# Altium integrated library DA1_prj.IntLib: 45 symbols
Pins are listed as number, name and electrical type; pins without a type are passive.

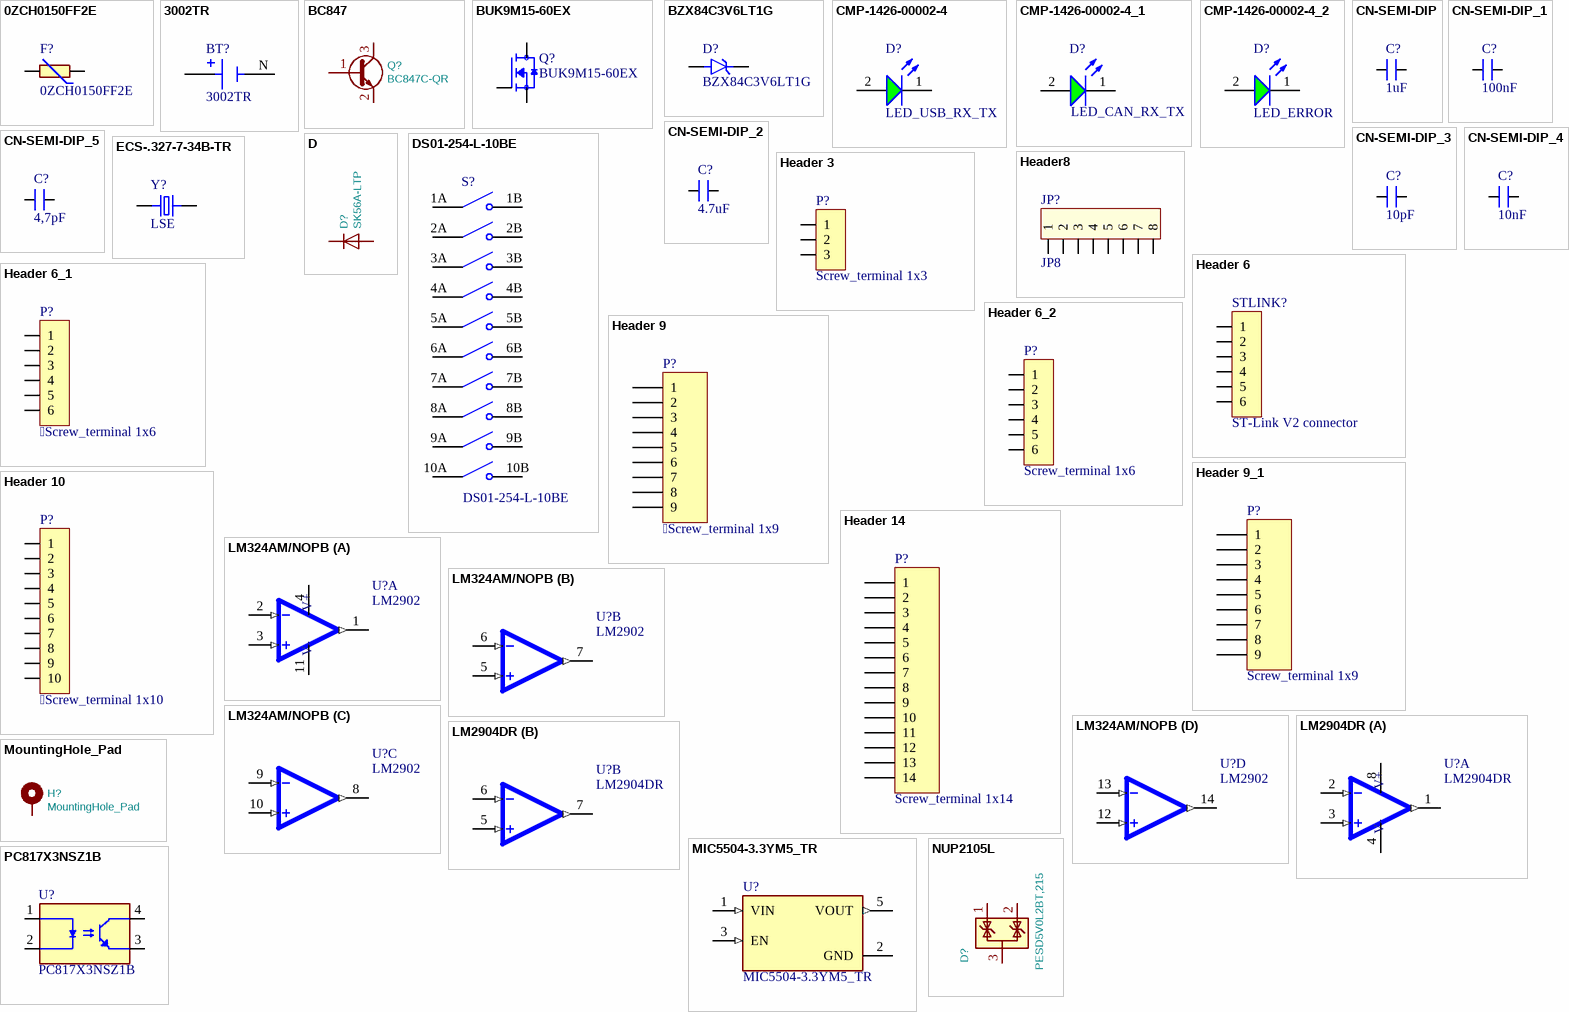
[diagram p0: symbols 0ZCH0150FF2E to PC817X3NSZ1B]

## 0ZCH0150FF2E
designator F?
1210 SMT PPTC | 1.50 Ih | 6V; MF: Bel Fuse; SnapEDA_Link: https://www.snapeda.com/parts/0ZCH0150FF2E/Bel+Circuit+Protection/view-part/?ref=snap; Package: Package; Value: *; MP: 0ZCH0150FF2E; Check_prices: https://www.snapeda.com/parts/0ZCH0150FF2E/Bel+Circuit+Protection/view-part/?ref=eda
footprint FUSC3225X90N
pins: 1, 2

## 3002TR
designator BT?
Battery Retainer; Coin Cell; 20 MM;Surface Mount; TAPE & REEL | Keystone Electronics 3002TR; SnapEDA_Link: https://www.snapeda.com/parts/3002TR/Keystone/view-part/?ref=snap; Package: None; Value: *; MF: Keystone Electronics; MP: 3002TR; Check_prices: https://www.snapeda.com/parts/3002TR/Keystone/view-part/?ref=eda
footprint BAT_3002TR
pins: N NEG, P1 POS, P2 POS

## BC847
designator Q?, comment BC847C-QR
LCSC: C2145; Value: BC847C-QR; Footprint: Package_TO_SOT_SMD:SOT-23
footprint SOT-23
footprint SOT95P240X111-3N
pins: 1 B, 2 E, 3 C

## BUK9M15-60EX
designator Q?
Bá»™ chuyá»ƒn Ä‘á»•i N-Channel 60 V 47A (Tc) 75W (Tc) gáº¯n bá» máº·t LFPAK33; MF: Nexperia USA; SnapEDA_Link: https://www.snapeda.com/parts/BUK9M15-60EX/Nexperia/view-part/?ref=snap; Package: LFPAK33-8 Nexperia USA Inc.; Value: *; MP: BUK9M15-60EX; Check_prices: https://www.snapeda.com/parts/BUK9M15-60EX/Nexperia/view-part/?ref=eda
footprint TRANS_BUK9M15-60EX
pins: 1 S, 2 S, 3 S, 4 G, 5 D

## BZX84C3V6LT1G
designator D?
Package: None; Price: None; Value: *; MP: BZX84C3V6LT1G; Availability: Unavailable
footprint SOT95P240X111-3N
pins: 1 A, 3 K

## CMP-1426-00002-4
designator D?, comment LED_USB_RX_TX
430mcd Colorless transparence 520nm Emerald 140° LED0603 Light Emitting Diodes (LED) ROHS; Peak Wavelength: 515nm; Forward Current: 100mA; Reverse Voltage: 5V; Output Current: 10µA; Power Dissipation: 105mW; Lens Style: Clear, Rectangular; Dominant Wavelength: 525nm; Color: Green; Test Current: 20mA; Max Junction Temperature (Tj): 95°C; Forward Voltage: 3.2V; Width: 800µm; Max Operating Temperature: 85°C; Case Code (Metric): 1608; Luminous Intensity: 430mcd; Lead Free: Lead Free; Case/Package: 0603; Case Code (Imperial): 0603; Mount: Surface Mount; Max Reverse Voltage (DC): 5V; Packaging: Tape and Reel; RoHS: Compliant; Viewing Angle: 140°; REACH SVHC: Unknown; Min Operating Temperature: -40°C; Height: 700µm; Wavelength: 525nm; Length: 1.6mm
footprint WL-SMCW_0603_150060xx75000
pins: 1 K, 2 A

## CMP-1426-00002-4_1
designator D?, comment LED_CAN_RX_TX
430mcd Colorless transparence 520nm Emerald 140° LED0603 Light Emitting Diodes (LED) ROHS; Peak Wavelength: 515nm; Forward Current: 100mA; Reverse Voltage: 5V; Output Current: 10µA; Power Dissipation: 105mW; Lens Style: Clear, Rectangular; Dominant Wavelength: 525nm; Color: Green; Test Current: 20mA; Max Junction Temperature (Tj): 95°C; Forward Voltage: 3.2V; Width: 800µm; Max Operating Temperature: 85°C; Case Code (Metric): 1608; Luminous Intensity: 430mcd; Lead Free: Lead Free; Case/Package: 0603; Case Code (Imperial): 0603; Mount: Surface Mount; Max Reverse Voltage (DC): 5V; Packaging: Tape and Reel; RoHS: Compliant; Viewing Angle: 140°; REACH SVHC: Unknown; Min Operating Temperature: -40°C; Height: 700µm; Wavelength: 525nm; Length: 1.6mm
footprint WL-SMCW_0603_150060xx75000
pins: 1 K, 2 A

## CMP-1426-00002-4_2
designator D?, comment LED_ERROR
430mcd Colorless transparence 520nm Emerald 140° LED0603 Light Emitting Diodes (LED) ROHS; Peak Wavelength: 515nm; Forward Current: 100mA; Reverse Voltage: 5V; Output Current: 10µA; Power Dissipation: 105mW; Lens Style: Clear, Rectangular; Dominant Wavelength: 525nm; Color: Green; Test Current: 20mA; Max Junction Temperature (Tj): 95°C; Forward Voltage: 3.2V; Width: 800µm; Max Operating Temperature: 85°C; Case Code (Metric): 1608; Luminous Intensity: 430mcd; Lead Free: Lead Free; Case/Package: 0603; Case Code (Imperial): 0603; Mount: Surface Mount; Max Reverse Voltage (DC): 5V; Packaging: Tape and Reel; RoHS: Compliant; Viewing Angle: 140°; REACH SVHC: Unknown; Min Operating Temperature: -40°C; Height: 700µm; Wavelength: 525nm; Length: 1.6mm
footprint WL-SMCW_0603_150060xx75000
pins: 1 K, 2 A

## CN-SEMI-DIP
designator C?, comment 1uF
Capacitor (Semiconductor SIM Model); Value: 104; LatestRevisionDate: 17-Jul-2002; LatestRevisionNote: Re-released for DXP Platform.; PackageReference: C1206; Publisher: Altium Limited
footprint C-SE-7,5x10x9x5x4 (Film Capacitors, 2-Leads, Body 7,5x10x9x5)
footprint C-SE-7,5x11x13x9x4 (Film Capacitors, 2-Leads, Body 7,5x11x13x9)
footprint C-SE-10x12,5x20x10x4 (Film Capacitors, 2-Leads, Body 10x12,5x20x10)
footprint C-SE-10x13x12x6x4 (Film Capacitors, 2-Leads, Body 10x13x12x6)
footprint C-SE-12,5x15x16x10x4 (Film Capacitors, 2-Leads, Body 12,5x15x16x10)
footprint C-SE-15x18x13,5x6,5x4 (Film Capacitors, 2-Leads, Body 15x18x13,5x6,5)
footprint C-SE-15x18x17,5x10x4 (Film Capacitors, 2-Leads, Body 15x18x17,5x10)
footprint C-SE-22,5x26x20x11x4 (Film Capacitors, 2-Leads, Body 22,5x26x20x11)
footprint C-SE-27,5x31x29x15,5x4 (Film Capacitors, 2-Leads, Body 27,5x31x29x15,5)
footprint C-SE-37,5x41,5x35,5x22,5x4 (Film Capacitors, 2-Leads, Body 37,5x41,5x35,5x22,5)
footprint FP-C0603C-CF-IPC_A
pins: 1, 2

## CN-SEMI-DIP_1
designator C?, comment 100nF
Capacitor (Semiconductor SIM Model); Value: 104; LatestRevisionDate: 17-Jul-2002; LatestRevisionNote: Re-released for DXP Platform.; PackageReference: C1206; Publisher: Altium Limited
footprint C-SE-7,5x10x9x5x4 (Film Capacitors, 2-Leads, Body 7,5x10x9x5)
footprint C-SE-7,5x11x13x9x4 (Film Capacitors, 2-Leads, Body 7,5x11x13x9)
footprint C-SE-10x12,5x20x10x4 (Film Capacitors, 2-Leads, Body 10x12,5x20x10)
footprint C-SE-10x13x12x6x4 (Film Capacitors, 2-Leads, Body 10x13x12x6)
footprint C-SE-12,5x15x16x10x4 (Film Capacitors, 2-Leads, Body 12,5x15x16x10)
footprint C-SE-15x18x13,5x6,5x4 (Film Capacitors, 2-Leads, Body 15x18x13,5x6,5)
footprint C-SE-15x18x17,5x10x4 (Film Capacitors, 2-Leads, Body 15x18x17,5x10)
footprint C-SE-22,5x26x20x11x4 (Film Capacitors, 2-Leads, Body 22,5x26x20x11)
footprint C-SE-27,5x31x29x15,5x4 (Film Capacitors, 2-Leads, Body 27,5x31x29x15,5)
footprint C-SE-37,5x41,5x35,5x22,5x4 (Film Capacitors, 2-Leads, Body 37,5x41,5x35,5x22,5)
footprint FP-C0603C-CF-IPC_A
pins: 1, 2

## CN-SEMI-DIP_2
designator C?, comment 4.7uF
Capacitor (Semiconductor SIM Model); Value: 104; LatestRevisionDate: 17-Jul-2002; LatestRevisionNote: Re-released for DXP Platform.; PackageReference: C1206; Publisher: Altium Limited
footprint C-SE-7,5x10x9x5x4 (Film Capacitors, 2-Leads, Body 7,5x10x9x5)
footprint C-SE-7,5x11x13x9x4 (Film Capacitors, 2-Leads, Body 7,5x11x13x9)
footprint C-SE-10x12,5x20x10x4 (Film Capacitors, 2-Leads, Body 10x12,5x20x10)
footprint C-SE-10x13x12x6x4 (Film Capacitors, 2-Leads, Body 10x13x12x6)
footprint C-SE-12,5x15x16x10x4 (Film Capacitors, 2-Leads, Body 12,5x15x16x10)
footprint C-SE-15x18x13,5x6,5x4 (Film Capacitors, 2-Leads, Body 15x18x13,5x6,5)
footprint C-SE-15x18x17,5x10x4 (Film Capacitors, 2-Leads, Body 15x18x17,5x10)
footprint C-SE-22,5x26x20x11x4 (Film Capacitors, 2-Leads, Body 22,5x26x20x11)
footprint C-SE-27,5x31x29x15,5x4 (Film Capacitors, 2-Leads, Body 27,5x31x29x15,5)
footprint C-SE-37,5x41,5x35,5x22,5x4 (Film Capacitors, 2-Leads, Body 37,5x41,5x35,5x22,5)
footprint FP-C0603C-CF-IPC_A
pins: 1, 2

## CN-SEMI-DIP_3
designator C?, comment 10pF
Capacitor (Semiconductor SIM Model); Value: 104; LatestRevisionDate: 17-Jul-2002; LatestRevisionNote: Re-released for DXP Platform.; PackageReference: C1206; Publisher: Altium Limited
footprint C-SE-7,5x10x9x5x4 (Film Capacitors, 2-Leads, Body 7,5x10x9x5)
footprint C-SE-7,5x11x13x9x4 (Film Capacitors, 2-Leads, Body 7,5x11x13x9)
footprint C-SE-10x12,5x20x10x4 (Film Capacitors, 2-Leads, Body 10x12,5x20x10)
footprint C-SE-10x13x12x6x4 (Film Capacitors, 2-Leads, Body 10x13x12x6)
footprint C-SE-12,5x15x16x10x4 (Film Capacitors, 2-Leads, Body 12,5x15x16x10)
footprint C-SE-15x18x13,5x6,5x4 (Film Capacitors, 2-Leads, Body 15x18x13,5x6,5)
footprint C-SE-15x18x17,5x10x4 (Film Capacitors, 2-Leads, Body 15x18x17,5x10)
footprint C-SE-22,5x26x20x11x4 (Film Capacitors, 2-Leads, Body 22,5x26x20x11)
footprint C-SE-27,5x31x29x15,5x4 (Film Capacitors, 2-Leads, Body 27,5x31x29x15,5)
footprint C-SE-37,5x41,5x35,5x22,5x4 (Film Capacitors, 2-Leads, Body 37,5x41,5x35,5x22,5)
footprint FP-C0603C-CF-IPC_A
pins: 1, 2

## CN-SEMI-DIP_4
designator C?, comment 10nF
Capacitor (Semiconductor SIM Model); Value: 104; LatestRevisionDate: 17-Jul-2002; LatestRevisionNote: Re-released for DXP Platform.; PackageReference: C1206; Publisher: Altium Limited
footprint C-SE-7,5x10x9x5x4 (Film Capacitors, 2-Leads, Body 7,5x10x9x5)
footprint C-SE-7,5x11x13x9x4 (Film Capacitors, 2-Leads, Body 7,5x11x13x9)
footprint C-SE-10x12,5x20x10x4 (Film Capacitors, 2-Leads, Body 10x12,5x20x10)
footprint C-SE-10x13x12x6x4 (Film Capacitors, 2-Leads, Body 10x13x12x6)
footprint C-SE-12,5x15x16x10x4 (Film Capacitors, 2-Leads, Body 12,5x15x16x10)
footprint C-SE-15x18x13,5x6,5x4 (Film Capacitors, 2-Leads, Body 15x18x13,5x6,5)
footprint C-SE-15x18x17,5x10x4 (Film Capacitors, 2-Leads, Body 15x18x17,5x10)
footprint C-SE-22,5x26x20x11x4 (Film Capacitors, 2-Leads, Body 22,5x26x20x11)
footprint C-SE-27,5x31x29x15,5x4 (Film Capacitors, 2-Leads, Body 27,5x31x29x15,5)
footprint C-SE-37,5x41,5x35,5x22,5x4 (Film Capacitors, 2-Leads, Body 37,5x41,5x35,5x22,5)
footprint FP-C0603C-CF-IPC_A
pins: 1, 2

## CN-SEMI-DIP_5
designator C?, comment 4,7pF
Capacitor (Semiconductor SIM Model); Value: 104; LatestRevisionDate: 17-Jul-2002; LatestRevisionNote: Re-released for DXP Platform.; PackageReference: C1206; Publisher: Altium Limited
footprint C-SE-7,5x10x9x5x4 (Film Capacitors, 2-Leads, Body 7,5x10x9x5)
footprint C-SE-7,5x11x13x9x4 (Film Capacitors, 2-Leads, Body 7,5x11x13x9)
footprint C-SE-10x12,5x20x10x4 (Film Capacitors, 2-Leads, Body 10x12,5x20x10)
footprint C-SE-10x13x12x6x4 (Film Capacitors, 2-Leads, Body 10x13x12x6)
footprint C-SE-12,5x15x16x10x4 (Film Capacitors, 2-Leads, Body 12,5x15x16x10)
footprint C-SE-15x18x13,5x6,5x4 (Film Capacitors, 2-Leads, Body 15x18x13,5x6,5)
footprint C-SE-15x18x17,5x10x4 (Film Capacitors, 2-Leads, Body 15x18x17,5x10)
footprint C-SE-22,5x26x20x11x4 (Film Capacitors, 2-Leads, Body 22,5x26x20x11)
footprint C-SE-27,5x31x29x15,5x4 (Film Capacitors, 2-Leads, Body 27,5x31x29x15,5)
footprint C-SE-37,5x41,5x35,5x22,5x4 (Film Capacitors, 2-Leads, Body 37,5x41,5x35,5x22,5)
footprint FP-C0603C-CF-IPC_A
pins: 1, 2

## D
designator D?, comment SK56A-LTP
Value: SK56A-LTP; Footprint: Diode_SMD:D_SMA
footprint D_SMA
footprint DIOM5225X244N
pins: 1 K, 2 A

## DS01-254-L-10BE
designator S?
10 Position, Through Hole, 2.54 mm Pitch, Raised Slide Actuator, Flat Bottom, Long Pin, DIP Switch; MF: Same Sky; SnapEDA_Link: https://www.snapeda.com/parts/DS01-254-L-10BE/Same+Sky/view-part/?ref=snap; Package: None; Value: *; MP: DS01-254-L-10BE; Check_prices: https://www.snapeda.com/parts/DS01-254-L-10BE/Same+Sky/view-part/?ref=eda
footprint SW_DS01-254-L-10BE
pins: 1A COM1, 1B NO1, 2A COM2, 2B NO2, 3A COM3, 3B NO3, 4A COM4, 4B NO4, 5A COM5, 5B NO5, 6A COM6, 6B NO6, 7A COM7, 7B NO7, 8A COM8, 8B NO8, 9A COM9, 9B NO9, 10A COM10, 10B NO10

## ECS-.327-7-34B-TR
designator Y?, comment LSE
32.768 kHz Â±20ppm Crystal 7pF 70 kOhms 2-SMD, No Lead; MF: ECS Inc.; MP: ECS-.327-7-34B-TR; SnapEDA_Link: https://www.snapeda.com/parts/ECS-.327-7-34B-TR/ECS/view-part/?ref=snap; Package: ECX-31B-34B-2 ECS; Value: *; Check_prices: https://www.snapeda.com/parts/ECS-.327-7-34B-TR/ECS/view-part/?ref=eda
footprint XTAL_ECS-.327-7-34B-TR
pins: 1, 2

## Header8
designator JP?, comment JP8
Connector 8; Value: Connector 8
footprint Header8 (CON8)
footprint HDR/Header/8
pins: 1, 2, 3, 4, 5, 6, 7, 8

## Header 3
designator P?, comment Screw_terminal 1x3
Header, 3-Pin
footprint HDR/Header/3
footprint HDR/Header/3/2mm
footprint HDR/Header/3/BOX
footprint HDR/Terminal/3
footprint HDR/Terminal/3/4mm
footprint HDR/Terminal/3/400
footprint HDR/Terminal/3/RA (Header 3, 3 pin, hight 300mil, Pin to Pin 200, Colour Green)
footprint HDR/Header/3/VH
footprint HDR/Header/3/black
footprint HDR/Header/3/red
footprint HDR/Header/3/yellow
footprint HDR/Header/3/c1
pins: 1, 2, 3

## Header 6
designator STLINK?, comment ST-Link V2 connector
Header, 6-Pin
footprint HDR/Header/6
footprint HDR/Header/6/2mm
footprint HDR/Header/6/BOX
footprint HDR/Terminal/6
footprint HDR/TERMINAL/6/375
footprint HDR/Terminal/6/RA (Header 6, 6 pin, hight 300mil, Pin to Pin 200, Colour Green)
footprint HDR/Header/6/VH
pins: 1, 2, 3, 4, 5, 6

## Header 6_1
designator P?, comment Screw_terminal 1x6
Header, 6-Pin
footprint HDR/Header/6
footprint HDR/Header/6/2mm
footprint HDR/Header/6/BOX
footprint HDR/Terminal/6
footprint HDR/TERMINAL/6/375
footprint HDR/Terminal/6/RA (Header 6, 6 pin, hight 300mil, Pin to Pin 200, Colour Green)
footprint HDR/Header/6/VH
footprint HDR/Terminal/6
pins: 1, 2, 3, 4, 5, 6

## Header 6_2
designator P?, comment Screw_terminal 1x6
Header, 6-Pin
footprint HDR/Header/6
footprint HDR/Header/6/2mm
footprint HDR/Header/6/BOX
footprint HDR/Terminal/6
footprint HDR/TERMINAL/6/375
footprint HDR/Terminal/6/RA (Header 6, 6 pin, hight 300mil, Pin to Pin 200, Colour Green)
footprint HDR/Header/6/VH
footprint HDR/Terminal/6
pins: 1, 2, 3, 4, 5, 6

## Header 9
designator P?, comment Screw_terminal 1x9
Header, 9-Pin
footprint HDR/Header/9
footprint HDR/Header/9/2mm
pins: 1, 2, 3, 4, 5, 6, 7, 8, 9

## Header 9_1
designator P?, comment Screw_terminal 1x9
Header, 9-Pin
footprint HDR/Header/9
footprint HDR/Header/9/2mm
pins: 1, 2, 3, 4, 5, 6, 7, 8, 9

## Header 10
designator P?, comment Screw_terminal 1x10
Header, 10-Pin
footprint HDR/Header/10
footprint HDR/Header/10/2mm
pins: 1, 2, 3, 4, 5, 6, 7, 8, 9, 10

## Header 14
designator P?, comment Screw_terminal 1x14
Header, 14-Pin
footprint HDR/Header/14
footprint HDR/Header/14/BLACK
footprint HDR/Header/14/BLUE
footprint HDR/Header/14/GREEN
footprint HDR/Header/14/RED
footprint HDR/Header/14/WHITE
footprint HDR/Header/14/YELLOW
pins: 1, 2, 3, 4, 5, 6, 7, 8, 9, 10, 11, 12, 13, 14

## LM324AM/NOPB
designator U?, comment LM2902
Low power general-purpose quad operational amplifier 14-SOIC 0 to 70; MF: Texas Instruments; MP: LM324AM; SnapEDA_Link: https://www.snapeda.com/parts/LM324AM/Texas+Instruments/view-part/?ref=snap; Package: SOIC-14 Texas Instruments; Value: *; Check_prices: https://www.snapeda.com/parts/LM324AM/Texas+Instruments/view-part/?ref=eda
footprint SOIC127P600X175-14N
part A pins: 1 OUT1 (out), 2 IN1- (in), 3 IN1+ (in), 4 V+ (power), 11 GND (power)
part B pins: 5 IN2+ (in), 6 IN2- (in), 7 OUT2 (out)
part C pins: 8 OUT3 (out), 9 IN3- (in), 10 IN3+ (in)
part D pins: 12 IN4+ (in), 13 IN4- (in), 14 OUT4 (out)
part A text: V-

## LM2904DR
designator U?
Dual, 26-V, 700-kHz operational amplifier; MF: Texas Instruments; SnapEDA_Link: https://www.snapeda.com/parts/LM2904DR/Texas+Instruments/view-part/?ref=snap; Package: SOIC-8 Texas Instruments; Value: *; MP: LM2904DR; Check_prices: https://www.snapeda.com/parts/LM2904DR/Texas+Instruments/view-part/?ref=eda
footprint SOIC127P599X175-8N
part A pins: 1 OUT1 (out), 2 IN1- (in), 3 IN1+ (in), 4 V- (power), 8 V+ (power)
part B pins: 5 IN2+ (in), 6 IN2- (in), 7 OUT2 (out)

## MIC5504-3.3YM5_TR
designator U?
Linear Voltage Regulator IC Positive Fixed 1 Output 300mA SOT-23-5; MF: Microchip; MP: MIC5504-3.3YM5 TR; SnapEDA_Link: https://www.snapeda.com/parts/MIC5504-3.3YM5%20TR/Microchip/view-part/?ref=snap; Package: SOT-23 Microchip; Value: *; Check_prices: https://www.snapeda.com/parts/MIC5504-3.3YM5%20TR/Microchip/view-part/?ref=eda
footprint SOT95P280X145-5N
pins: 1 VIN (in), 2 GND (power), 3 EN (in), 5 VOUT (out)

## MountingHole_Pad
designator H?
Value: MountingHole_Pad; Footprint: MountingHole:MountingHole_2.7mm_M2.5_DIN965_Pad
footprint MountingHole_2.7mm_M2.5_DIN965_Pad
pins: 1

## NUP2105L
designator D?, comment PESD5V0L2BT,215
Mouser Eletronics: 755-MMBZ6V8ALFHT116; Value: PESD5V0L2BT,215; Footprint: Package_TO_SOT_SMD:SOT-23
footprint SOT-23
footprint SOT95P230X110-3N
pins: 1 K, 2 K, 3 A

## PC817X3NSZ1B
designator U?
Optoisolator Transistor Output - 1 Channel 4-DIP; MF: Sharp Microelectronics; SnapEDA_Link: https://www.snapeda.com/parts/PC817X3NSZ1B/Sharp+Microelectronics/view-part/?ref=snap; Price: None; Purchase-URL: https://pricing.snapeda.com/search/part/PC817X3NSZ1B/?ref=eda; Check_prices: https://www.snapeda.com/parts/PC817X3NSZ1B/Sharp+Microelectronics/view-part/?ref=eda; MP: PC817X3NSZ1B; Value: *; Availability: In Stock; Package: DIP-4 Sharp Microelectronics
footprint DIP762W50P254L495H455Q4
pins: 1 ANODE, 2 CATHODE, 3 EMITTER, 4 COLLECTOR

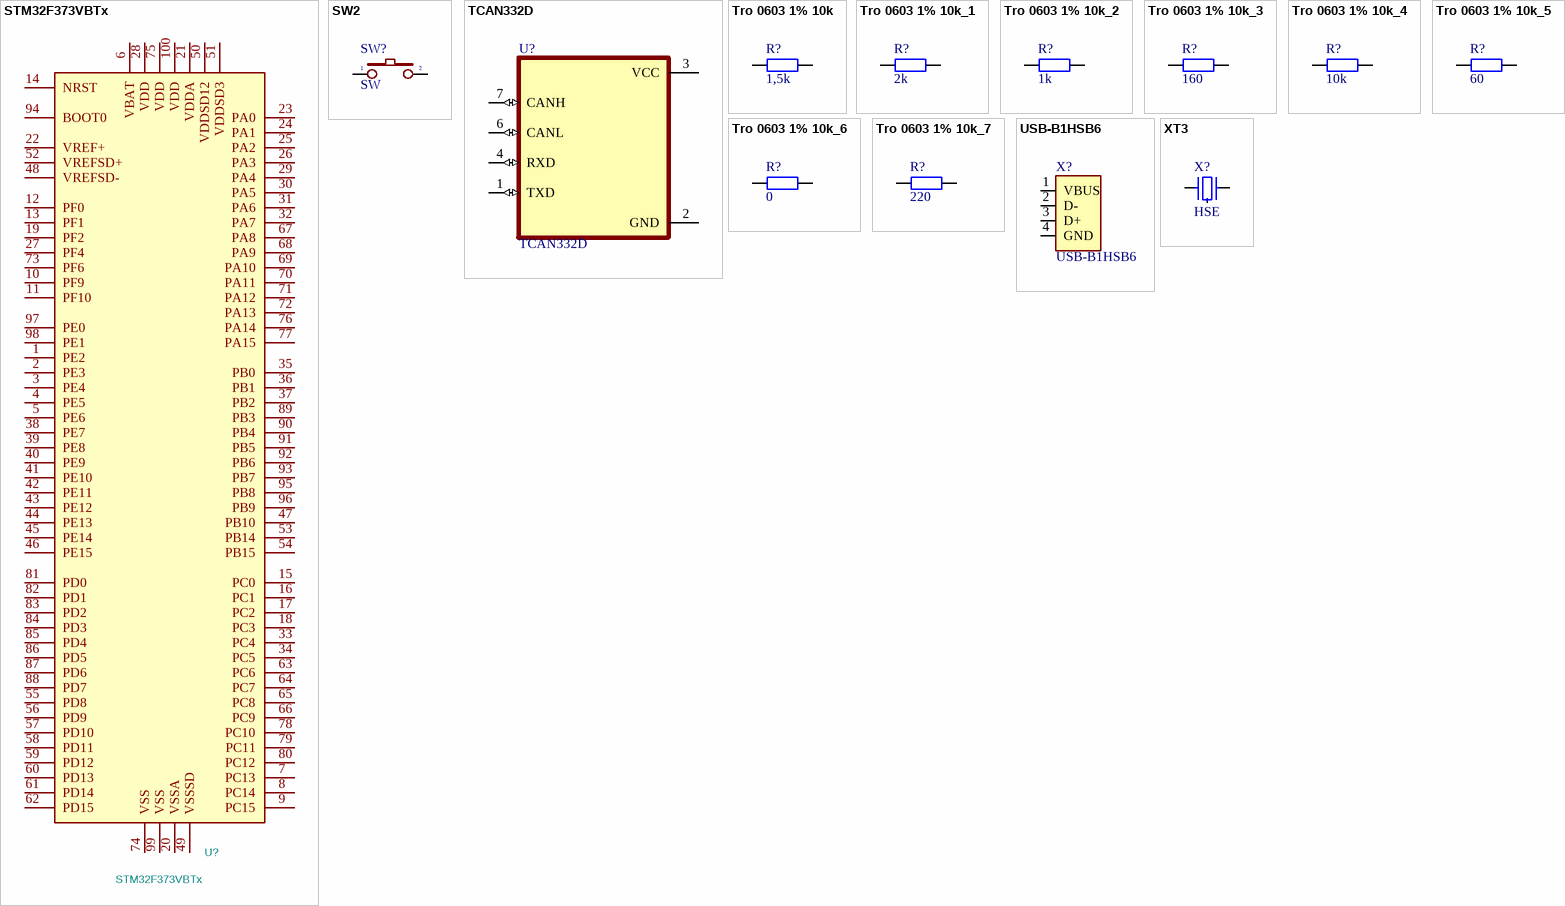
[diagram p1: symbols STM32F373VBTx to XT3]

## STM32F373VBTx
designator U?
Footprint: Package_QFP:LQFP-100_14x14mm_P0.5mm; Value: STM32F373VBTx
footprint LQFP-100_14x14mm_P0.5mm
footprint QFP50P1600X1600X160-100N
pins: 1 PE2, 2 PE3, 3 PE4, 4 PE5, 5 PE6, 6 VBAT, 7 PC13, 8 PC14, 9 PC15, 10 PF9, 11 PF10, 12 PF0, 13 PF1, 14 NRST, 15 PC0, 16 PC1, 17 PC2, 18 PC3, 19 PF2, 20 VSSA, 21 VDDA, 22 VREF+, 23 PA0, 24 PA1, 25 PA2, 26 PA3, 27 PF4, 28 VDD, 29 PA4, 30 PA5, 31 PA6, 32 PA7, 33 PC4, 34 PC5, 35 PB0, 36 PB1, 37 PB2, 38 PE7, 39 PE8, 40 PE9, 41 PE10, 42 PE11, 43 PE12, 44 PE13, 45 PE14, 46 PE15, 47 PB10, 48 VREFSD-, 49 VSSSD, 50 VDDSD12, 51 VDDSD3, 52 VREFSD+, 53 PB14, 54 PB15, 55 PD8, 56 PD9, 57 PD10, 58 PD11, 59 PD12, 60 PD13, 61 PD14, 62 PD15, 63 PC6, 64 PC7, 65 PC8, 66 PC9, 67 PA8, 68 PA9, 69 PA10, 70 PA11, 71 PA12, 72 PA13, 73 PF6, 74 VSS, 75 VDD, 76 PA14, 77 PA15, 78 PC10, 79 PC11, 80 PC12, 81 PD0, 82 PD1, 83 PD2, 84 PD3, 85 PD4, 86 PD5, 87 PD6, 88 PD7, 89 PB3, 90 PB4, 91 PB5, 92 PB6, 93 PB7, 94 BOOT0, 95 PB8, 96 PB9, 97 PE0, 98 PE1, 99 VSS, 100 VDD

## SW2
designator SW?, comment SW
Switch button 2 pin; Value: SW chip 2 pin
footprint SW1-SMD
footprint SW-DIP1
footprint SW-DIP1-1 (01p, 2.54mm Pitch, Horizontal, Box Type, THT, flat Actuator, red, without Tape, Tube)
footprint SW1-DIP
pins: 1, 2

## TCAN332D
designator U?
3.3-V CAN Transceivers; MF: Texas Instruments; SnapEDA_Link: https://www.snapeda.com/parts/TCAN332D/Texas+Instruments/view-part/?ref=snap; Package: SOIC-8 Texas Instruments; Value: *; MP: TCAN332D; Check_prices: https://www.snapeda.com/parts/TCAN332D/Texas+Instruments/view-part/?ref=eda
footprint SOIC127P599X175-8N
pins: 1 TXD (io), 2 GND (power), 3 VCC (power), 4 RXD (io), 6 CANL (io), 7 CANH (io)

## Tro 0603 1% 10k
designator R?, comment 1,5k
RES; Chung_Loai: Dán; Don_Vi: Con; So_Chan: 2; Ten_Linh_Kien: Trở 0603 1% 10k; Ma_Hang: MH006333; Kieu_Chan: *
footprint tro smd 0603 (Chip Capacitor, 2-Leads, Body 1,60x0,80mm, IPC Medium Density)
pins: 1, 2

## Tro 0603 1% 10k_1
designator R?, comment 2k
RES; Chung_Loai: Dán; Don_Vi: Con; So_Chan: 2; Ten_Linh_Kien: Trở 0603 1% 10k; Ma_Hang: MH006333; Kieu_Chan: *
footprint tro smd 0603 (Chip Capacitor, 2-Leads, Body 1,60x0,80mm, IPC Medium Density)
pins: 1, 2

## Tro 0603 1% 10k_2
designator R?, comment 1k
RES; Chung_Loai: Dán; Don_Vi: Con; So_Chan: 2; Ten_Linh_Kien: Trở 0603 1% 10k; Ma_Hang: MH006333; Kieu_Chan: *
footprint tro smd 0603 (Chip Capacitor, 2-Leads, Body 1,60x0,80mm, IPC Medium Density)
pins: 1, 2

## Tro 0603 1% 10k_3
designator R?, comment 160
RES; Chung_Loai: Dán; Don_Vi: Con; So_Chan: 2; Ten_Linh_Kien: Trở 0603 1% 10k; Ma_Hang: MH006333; Kieu_Chan: *
footprint tro smd 0603 (Chip Capacitor, 2-Leads, Body 1,60x0,80mm, IPC Medium Density)
pins: 1, 2

## Tro 0603 1% 10k_4
designator R?, comment 10k
RES; Chung_Loai: Dán; Don_Vi: Con; So_Chan: 2; Ten_Linh_Kien: Trở 0603 1% 10k; Ma_Hang: MH006333; Kieu_Chan: *
footprint tro smd 0603 (Chip Capacitor, 2-Leads, Body 1,60x0,80mm, IPC Medium Density)
pins: 1, 2

## Tro 0603 1% 10k_5
designator R?, comment 60
RES; Chung_Loai: Dán; Don_Vi: Con; So_Chan: 2; Ten_Linh_Kien: Trở 0603 1% 10k; Ma_Hang: MH006333; Kieu_Chan: *
footprint tro smd 0603 (Chip Capacitor, 2-Leads, Body 1,60x0,80mm, IPC Medium Density)
pins: 1, 2

## Tro 0603 1% 10k_6
designator R?, comment 0
RES; Chung_Loai: Dán; Don_Vi: Con; So_Chan: 2; Ten_Linh_Kien: Trở 0603 1% 10k; Ma_Hang: MH006333; Kieu_Chan: *
footprint tro smd 0603 (Chip Capacitor, 2-Leads, Body 1,60x0,80mm, IPC Medium Density)
pins: 1, 2

## Tro 0603 1% 10k_7
designator R?, comment 220
RES; Chung_Loai: Dán; Don_Vi: Con; So_Chan: 2; Ten_Linh_Kien: Trở 0603 1% 10k; Ma_Hang: MH006333; Kieu_Chan: *
footprint tro smd 0603 (Chip Capacitor, 2-Leads, Body 1,60x0,80mm, IPC Medium Density)
pins: 1, 2

## USB-B1HSB6
designator X?
USB-B (USB TYPE-B) - Receptacle Connector 4 Position Through Hole, Right Angle; MF: On Shore; Check_prices: https://www.snapeda.com/parts/USB-B1HSB6/On+Shore+Technology+Inc./view-part/?ref=eda; Value: *; Purchase-URL: https://pricing.snapeda.com/search/part/USB-B1HSB6/?ref=eda; Price: None; MP: USB-B1HSB6; SnapEDA_Link: https://www.snapeda.com/parts/USB-B1HSB6/On+Shore+Technology+Inc./view-part/?ref=snap; Availability: In Stock; Package: None
footprint OST_USB-B1HSB6
pins: 1 VBUS (power), 2 D- (io), 3 D+ (io), 4 GND (power)

## XT3
designator X?, comment HSE
Crystal For all Crystal 2pin.; Value: 4Mhz
footprint XT3
footprint BXR315A (Xtal for RF)
pins: 1, 2, 3